# Altium footprint library 杂项库.PcbLib: 585 footprints (part 4 of 37)
Each footprint in its own frame and in the unit in brackets; x right, y up, seen from the top. Pads: shape width x height; smd on the part's side, far side on the other; paste and mask are expansions set on the pad; w line width, h text height; cw(c..) or ccw(c..) is an arc to the next point about the centre after c.
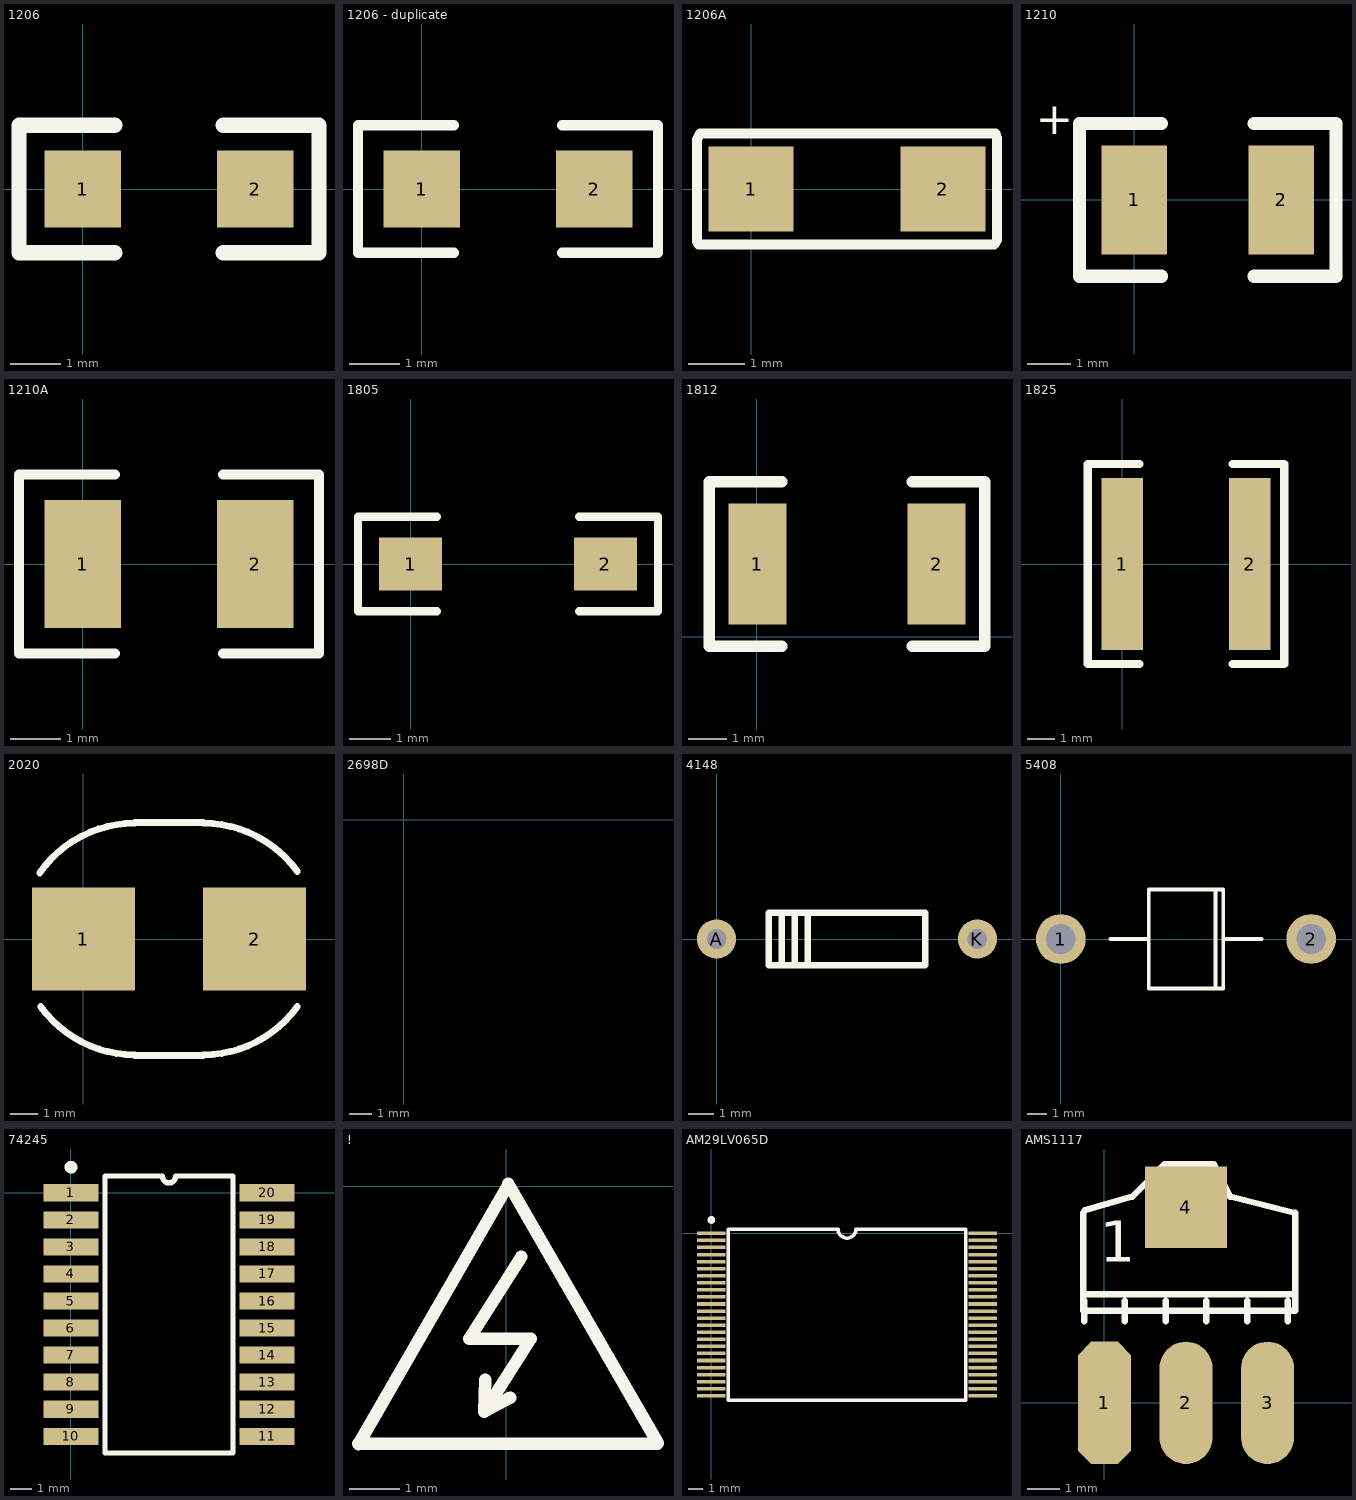
[diagram p3: the footprints below, top view; thin cyan lines are the x and y axes]

## 1206 [mil]
pads (2):
  rect 60x60 smd: 1(0,0) 2(135,0)
Top Overlay:
  lines w12: 25,-50 -50,-50 -50,50 25,50 ; 110,-50 185,-50 185,50 110,50

## 1206 - duplicate [mil]
pads (2):
  rect 60x60 smd: 1(0,0) 2(135,0)
Top Overlay:
  lines w8: 25,-50 -50,-50 -50,50 25,50 ; 110,-50 185,-50 185,50 110,50

## 1206A [mil]
pads (2):
  rect 60x60 smd: 1(0,0) 2(135,0)
Top Overlay:
  lines w7: -38,-37 -37,-39 171,-39 173,-36 173,36 172,39 -36,39 -38,35 -38,-37

## 1210 [mil]
pads (2):
  rect 60x100 smd: 1(0,0) 2(135,0)
Top Overlay:
  lines w12: 25,-70 -50,-70 -50,70 25,70 ; 110,-70 185,-70 185,70 110,70
  text "+" at -90,60 h30

## 1210A [mil]
pads (2):
  rect 60x100 smd: 1(0,0) 2(135,0)
Top Overlay:
  lines w7.87: 25,-70 -50,-70 -50,70 25,70 ; 110,-70 185,-70 185,70 110,70

## 1805 [mil]
pads (2):
  rect 60x50 smd: 1(0,0) 2(185,0)
Top Overlay:
  lines w7.87: 25,-45 -50,-45 -50,45 25,45 ; 160,-45 235,-45 235,45 160,45

## 1812 [mil]
pads (2):
  rect 60x125 smd: 1(1,75) 2(186,75)
Top Overlay:
  lines w12: 26,-10 -49,-10 -49,160 26,160 ; 161,-10 236,-10 236,160 161,160

## 1825 [mil]
pads (2):
  rect 60x250 smd: 1(0,0) 2(185,0)
Top Overlay:
  lines w12: 25,-145 -50,-145 -50,145 25,145 ; 160,-145 235,-145 235,145 160,145

## 2020 [mil]
pads (2):
  rect 150x150 smd: 1(0,0) 2(250,0)
Top Overlay:
  lines w10: -63.89,96.62 cw(c75,0) 75,169.19 ; -62.3,-98.86 ccw(c75,0) 75,-169.19 ; 75,-170 175,-170 ; 75,170 175,170 ; 175,-169.19 ccw(c175,0) 312.3,-98.86 ; 175,169.19 cw(c175,0) 312.3,98.86

## 2698D [mil]
Mid-Layer 19:
  lines w8.66: -45.44,-294.83 -6.07,-294.83 ; -45.44,-277.51 -6.07,-277.51 ; -45.44,-260.19 -6.07,-260.19 ; -45.44,-242.87 -6.07,-242.87 ; -45.44,-225.54 -6.07,-225.54 ; -45.44,-208.22 -6.07,-208.22 ; -45.44,-190.9 -6.07,-190.9 ; -45.44,-173.57 -6.07,-173.57 ; -45.44,-156.25 -6.07,-156.25 ; -45.44,-138.93 -6.07,-138.93 ; -45.44,-121.61 -6.07,-121.61 ; -41.11,-312.16 -1.74,-312.16 ; -41.11,-104.28 -1.74,-104.28 ; -36.78,-329.48 2.59,-329.48 ; -36.78,-86.96 2.59,-86.96 ; -32.45,-346.8 6.92,-346.8 ; -32.45,-69.64 6.92,-69.64 ; -28.12,-364.13 11.25,-364.13 ; -28.12,-52.31 11.25,-52.31 ; -23.79,-381.45 15.58,-381.45 ; -23.79,-34.99 15.58,-34.99 ; -19.46,-398.77 19.91,-398.77 ; -19.46,-17.67 19.91,-17.67 ; 34.87,-453.1 34.87,-413.73 ; 52.2,-457.43 52.2,-418.06 ; 60.86,-2.71 60.86,36.66 ; 69.52,-461.76 69.52,-422.39 ; 78.18,1.62 78.18,40.99 ; 86.84,-466.09 86.84,-426.72 ; 95.5,5.95 95.5,45.32 ; 104.17,-470.43 104.17,-431.06 ; 112.83,14.61 112.83,53.98 ; 121.49,-470.43 121.49,-431.06 ; 130.15,14.61 130.15,53.98 ; 138.81,-470.43 138.81,-431.06 ; 147.47,14.61 147.47,53.98 ; 156.13,-470.43 156.13,-431.06 ; 164.79,14.61 164.79,53.98 ; 173.46,-470.43 173.46,-431.06 ; 182.12,14.61 182.12,53.98 ; 190.78,-470.43 190.78,-431.06 ; 199.44,14.61 199.44,53.98 ; 208.1,-470.43 208.1,-431.06 ; 216.76,14.61 216.76,53.98 ; 225.43,-470.43 225.43,-431.06 ; 234.09,14.61 234.09,53.98 ; 242.75,-470.43 242.75,-431.06 ; 251.41,14.61 251.41,53.98 ; 260.07,-470.43 260.07,-431.06 ; 268.73,10.28 268.73,49.65 ; 277.39,-466.09 277.39,-426.72 ; 286.06,5.95 286.06,45.32 ; 294.72,-461.76 294.72,-422.39 ; 303.38,1.62 303.38,40.99 ; 312.04,-457.43 312.04,-418.06 ; 320.7,-2.71 320.7,36.66 ; 329.36,-453.1 329.36,-413.73 ; 344.32,-398.77 383.69,-398.77 ; 344.32,-34.99 383.69,-34.99 ; 348.65,-381.45 388.02,-381.45 ; 348.65,-52.31 388.02,-52.31 ; 352.98,-364.13 392.35,-364.13 ; 352.98,-69.64 392.35,-69.64 ; 357.31,-346.8 396.69,-346.8 ; 357.31,-86.96 396.69,-86.96 ; 361.65,-329.48 401.02,-329.48 ; 361.65,-104.28 401.02,-104.28 ; 365.98,-312.16 405.35,-312.16 ; 365.98,-121.61 405.35,-121.61 ; 370.31,-294.83 409.68,-294.83 ; 370.31,-277.51 409.68,-277.51 ; 370.31,-260.19 409.68,-260.19 ; 370.31,-242.87 409.68,-242.87 ; 370.31,-225.54 409.68,-225.54 ; 370.31,-208.22 409.68,-208.22 ; 370.31,-190.9 409.68,-190.9 ; 370.31,-173.57 409.68,-173.57 ; 370.31,-156.25 409.68,-156.25 ; 370.31,-138.93 409.68,-138.93
Mid-Layer 20:
  lines w8.66: -45.44,-294.83 -6.07,-294.83 ; -45.44,-277.51 -6.07,-277.51 ; -45.44,-260.19 -6.07,-260.19 ; -45.44,-242.87 -6.07,-242.87 ; -45.44,-225.54 -6.07,-225.54 ; -45.44,-208.22 -6.07,-208.22 ; -45.44,-190.9 -6.07,-190.9 ; -45.44,-173.57 -6.07,-173.57 ; -45.44,-156.25 -6.07,-156.25 ; -45.44,-138.93 -6.07,-138.93 ; -45.44,-121.61 -6.07,-121.61 ; -41.11,-312.16 -1.74,-312.16 ; -41.11,-104.28 -1.74,-104.28 ; -36.78,-329.48 2.59,-329.48 ; -36.78,-86.96 2.59,-86.96 ; -32.45,-346.8 6.92,-346.8 ; -32.45,-69.64 6.92,-69.64 ; -28.12,-364.13 11.25,-364.13 ; -28.12,-52.31 11.25,-52.31 ; -23.79,-381.45 15.58,-381.45 ; -23.79,-34.99 15.58,-34.99 ; -19.46,-398.77 19.91,-398.77 ; -19.46,-17.67 19.91,-17.67 ; 34.87,-453.1 34.87,-413.73 ; 52.2,-457.43 52.2,-418.06 ; 60.86,-2.71 60.86,36.66 ; 69.52,-461.76 69.52,-422.39 ; 78.18,1.62 78.18,40.99 ; 86.84,-466.09 86.84,-426.72 ; 95.5,5.95 95.5,45.32 ; 104.17,-470.43 104.17,-431.06 ; 112.83,14.61 112.83,53.98 ; 121.49,-470.43 121.49,-431.06 ; 130.15,14.61 130.15,53.98 ; 138.81,-470.43 138.81,-431.06 ; 147.47,14.61 147.47,53.98 ; 156.13,-470.43 156.13,-431.06 ; 164.79,14.61 164.79,53.98 ; 173.46,-470.43 173.46,-431.06 ; 182.12,14.61 182.12,53.98 ; 190.78,-470.43 190.78,-431.06 ; 199.44,14.61 199.44,53.98 ; 208.1,-470.43 208.1,-431.06 ; 216.76,14.61 216.76,53.98 ; 225.43,-470.43 225.43,-431.06 ; 234.09,14.61 234.09,53.98 ; 242.75,-470.43 242.75,-431.06 ; 251.41,14.61 251.41,53.98 ; 260.07,-470.43 260.07,-431.06 ; 268.73,10.28 268.73,49.65 ; 277.39,-466.09 277.39,-426.72 ; 286.06,5.95 286.06,45.32 ; 294.72,-461.76 294.72,-422.39 ; 303.38,1.62 303.38,40.99 ; 312.04,-457.43 312.04,-418.06 ; 320.7,-2.71 320.7,36.66 ; 329.36,-453.1 329.36,-413.73 ; 344.32,-398.77 383.69,-398.77 ; 344.32,-34.99 383.69,-34.99 ; 348.65,-381.45 388.02,-381.45 ; 348.65,-52.31 388.02,-52.31 ; 352.98,-364.13 392.35,-364.13 ; 352.98,-69.64 392.35,-69.64 ; 357.31,-346.8 396.69,-346.8 ; 357.31,-86.96 396.69,-86.96 ; 361.65,-329.48 401.02,-329.48 ; 361.65,-104.28 401.02,-104.28 ; 365.98,-312.16 405.35,-312.16 ; 365.98,-121.61 405.35,-121.61 ; 370.31,-294.83 409.68,-294.83 ; 370.31,-277.51 409.68,-277.51 ; 370.31,-260.19 409.68,-260.19 ; 370.31,-242.87 409.68,-242.87 ; 370.31,-225.54 409.68,-225.54 ; 370.31,-208.22 409.68,-208.22 ; 370.31,-190.9 409.68,-190.9 ; 370.31,-173.57 409.68,-173.57 ; 370.31,-156.25 409.68,-156.25 ; 370.31,-138.93 409.68,-138.93

## 4148 [mil]
pads (2):
  round 60 hole 30: A(0,0) K(400,0)
Top Overlay:
  lines w10: 100,-40 100,40 ; 120,-40 120,40 ; 140,-40 140,40 ; 80,-40 80,40 320,40 320,-40 80,-40

## 5408 [mm]
pads (2):
  round 2.5 hole 1.5: 1(0,0) 2(12.6,0)
Top Overlay:
  lines w0.2: 2.5,0 4.425,0 ; 7.775,-2.5 7.775,2.5 ; 8.175,0 10.1,0 ; 4.425,0 4.425,-2.5 8.175,-2.5 8.175,2.5 4.425,2.5 4.425,0

## 74245 [mm]
pads (20):
  rect 2.6x0.8 smd: 1(0,0) 2(0,-1.27) 3(0,-2.54) 4(0,-3.81) 5(0,-5.08) 6(0,-6.35) 7(0,-7.62) 8(0,-8.89) 9(0,-10.16) 10(0,-11.43) 11(9.2,-11.43) 12(9.2,-10.16) 13(9.2,-8.89) 14(9.2,-7.62) 15(9.2,-6.35) 16(9.2,-5.08) 17(9.2,-3.81) 18(9.2,-2.54) 19(9.2,-1.27) 20(9.2,0)
Top Overlay:
  circle w0.3: c0,1.2 r0.15
  lines w0.25: 1.6,-12.215 7.6,-12.215 7.6,0.785 4.917,0.785 cw(c4.6,0.785) 4.282,0.785 1.6,0.785 1.6,-12.215

## ! [mil]
Top Overlay:
  lines w9.84: -116.93,-202.78 119.29,-202.78 ; -116.53,-203.18 1.57,1.4 ; -16.93,-177.19 19.29,-120.1 -29.13,-120.1 11.81,-55.53 ; -16.54,-152.39 -17.32,-177.58 3.15,-166.56 ; 1.57,2.03 119.69,-202.55

## AM29LV065D [mm]
pads (48):
  rect 2.032x0.25 smd: 1(0,0) 2(0,-0.5) 3(0,-1) 4(0,-1.5) 5(0,-2) 6(0,-2.5) 7(0,-3) 8(0,-3.5) 9(0,-4) 10(0,-4.5) 11(0,-5) 12(0,-5.5) 13(0,-6) 14(0,-6.5) 15(0,-7) 16(0,-7.5) 17(0,-8) 18(0,-8.5) 19(0,-9) 20(0,-9.5) 21(0,-10) 22(0,-10.5) 23(0,-11) 24(0,-11.5) 25(19.2,-11.5) 26(19.2,-11) 27(19.2,-10.5) 28(19.2,-10) 29(19.2,-9.5) 30(19.2,-9) 31(19.2,-8.5) 32(19.2,-8) 33(19.2,-7.5) 34(19.2,-7) 35(19.2,-6.5) 36(19.2,-6) 37(19.2,-5.5) 38(19.2,-5) 39(19.2,-4.5) 40(19.2,-4) 41(19.2,-3.5) 42(19.2,-3) 43(19.2,-2.5) 44(19.2,-2) 45(19.2,-1.5) 46(19.2,-1) 47(19.2,-0.5) 48(19.2,0)
Top Overlay:
  circle w0.25: c0,0.95 r0.15
  lines w0.25: 1.2,-11.8 18,-11.8 18,0.3 10.235,0.3 cw(c9.6,0.3) 8.965,0.3 1.2,0.3 1.2,-11.8

## AMS1117 [mil]
pads (4):
  oct 65x150 smd: 1(0.03,-0.06)
  oval 65x150 smd: 2(100.03,-0.06) 3(200.03,-0.06)
  rect 100x100 smd: 4(100.03,239.94)
Top Overlay:
  lines w7.87: -25.97,232.94 -25.97,132.94 ; -24.97,99.94 -24.97,124.94 ; -24.3,236.27 34.03,252.94 74.03,292.94 134.03,292.94 154.03,252.94 234.03,232.94 234.03,112.94 ; 25.03,99.94 25.03,124.94 ; 75.03,99.94 75.03,124.94 ; 125.03,99.94 125.03,124.94 ; 175.03,99.94 175.03,124.94 ; 225.03,99.94 225.03,124.94 ; -25.97,132.94 -25.97,112.94 234.03,112.94 ; -25.97,132.94 234.03,132.94 234.03,112.94
  text "1" at -5.97,172.94 h50